# EAGLE library part EPG.1B.314.NLN (library lplemo)
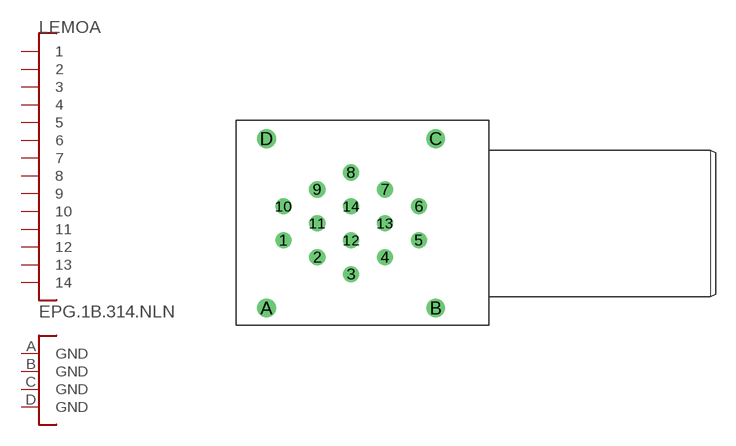
[diagram p18: symbol with the pads of P20-EPG.1B.314; footprint P20-EPG.1B.314]

Designator prefix LEMO; gates A=C14 B=GND4

## EPG.1B.314.NLN  [P20-EPG.1B.314]
1  A:1
2  A:2
3  A:3
4  A:4
5  A:5
6  A:6
7  A:7
8  A:8
9  A:9
10  A:10
11  A:11
12  A:12
13  A:13
14  A:14
A  B:GND  pwr
B  B:GND  pwr
C  B:GND  pwr
D  B:GND  pwr

## Footprint P20-EPG.1B.314 (pad centres in mm)
drill 0.7 round: 1 -11.43,-1.27; 2 -8.89,-2.54; 3 -6.35,-3.81; 4 -3.81,-2.54; 5 -1.27,-1.27; 6 -1.27,1.27; 7 -3.81,2.54; 8 -6.35,3.81; 9 -8.89,2.54; 10 -11.43,1.27; 11 -8.89,0; 12 -6.35,-1.27; 13 -3.81,0; 14 -6.35,1.27
drill 0.9 round: A -12.7,-6.35; B 0,-6.35; C 0,6.35; D -12.7,6.35